# EAGLE library part LP3996_DSC_10 (library LP3996)
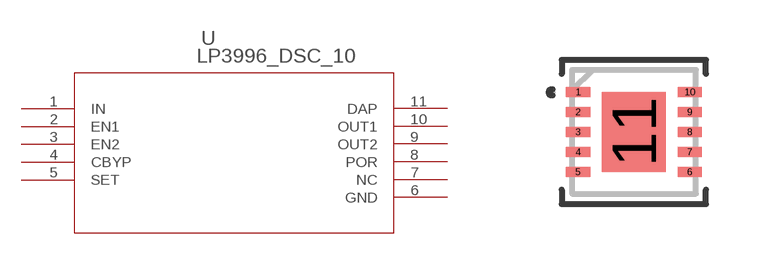
[diagram p0: symbol with the pads of SDA10A; footprint SDA10A]

Designator prefix U

## LP3996_DSC_10 (BASE_PN: LP3996; COMP: TypeLDO; LIBRARY: ReferenceLP3996SD; PARTNUMBER: LP3996SD0833; PIN: Count10; SYMBOL: NameLP3996SD0833; TYPE: LP3996SD0833; VENDOR: NationalSemiconductor; VERSION: 1)  [SDA10A]
1  IN  in
2  EN1  pas
3  EN2  pas
4  CBYP  pas
5  SET  pas
6  GND  pas
7  NC  pas
8  POR  pas
9  OUT2  out
10  OUT1  out
11  DAP  pas

## Footprint SDA10A (pad centres in mm)
smd 0.61 x 0.254: 1 -1.397,1; 2 -1.397,0.5; 3 -1.397,0; 4 -1.397,-0.5; 5 -1.397,-1; 6 1.397,-1; 7 1.397,-0.5; 8 1.397,0; 9 1.397,0.5; 10 1.397,1
smd 1.6 x 2.007: 11 0,0